# Altium footprint library TSSOP-20_L6.5-W4.4-P0.65-LS6.4-BL_2021-01-15.PcbLib: 1 footprints
Each footprint in its own frame and in the unit in brackets; x right, y up, seen from the top. Pads: shape width x height; smd on the part's side, far side on the other; paste and mask are expansions set on the pad; w line width, h text height; cw(c..) or ccw(c..) is an arc to the next point about the centre after c.
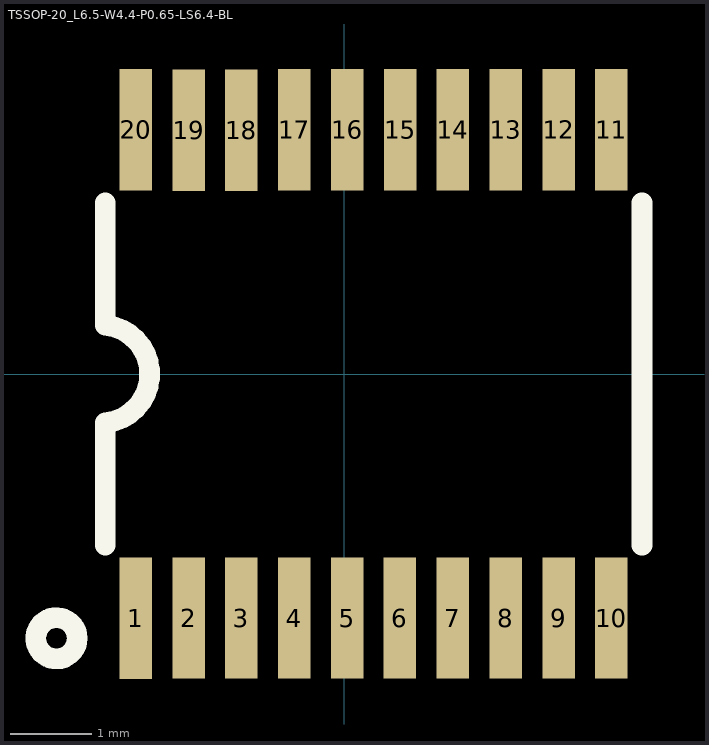
[diagram p0: the footprint, top view; thin cyan lines are the x and y axes]

## TSSOP-20_L6.5-W4.4-P0.65-LS6.4-BL [mm]
pads (20):
  rect 0.4x1.494 smd: 1(-2.562,-3.001) 2(-1.912,-3.001) 3(-1.262,-3.001) 4(-0.612,-3.001) 5(0.038,-3.001) 6(0.687,-3.001) 7(1.338,-3.001) 8(1.988,-3.001) 9(2.638,-3.001) 10(3.288,-3.001) 11(3.288,3.001) 12(2.638,3.001) 13(1.988,3.001) 14(1.338,3.001) 15(0.688,3.001) 16(0.038,3.001) 17(-0.612,3.001) 18(-1.262,2.996) 19(-1.912,2.996) 20(-2.562,3.001)
Top Overlay:
  circle w0.254: c-3.537,-3.25 r0.254
  lines w0.254: -2.937,-2.105 -2.937,-2.105 -2.937,-0.6 ccw(c-2.993,0) -2.937,0.6 -2.937,2.105 ; 3.663,2.105 3.663,-2.105 3.664,-2.105